# Altium schematic symbol library ADS7142.SchLib: 1 symbol
Pins are listed as number, name and electrical type; pins without a type are passive.

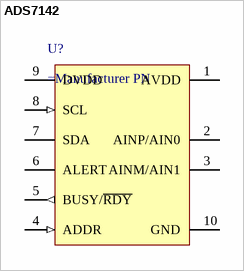
[diagram p0: symbol ADS7142]

## ADS7142
designator U?
Nanopower Dual-Channel ADC
pins: 1 AVDD (power), 2 AINP/AIN0, 3 AINM/AIN1, 4 ADDR (in), 5 BUSY/~{RDY} (out), 6 ALERT (oc), 7 SDA, 8 SCL (in), 9 DVDD (power), 10 GND (power)